# Altium footprint library PowerPAK_SO-8L.PcbLib: 1 footprints
Each footprint in its own frame and in the unit in brackets; x right, y up, seen from the top. Pads: shape width x height; smd on the part's side, far side on the other; paste and mask are expansions set on the pad; w line width, h text height; cw(c..) or ccw(c..) is an arc to the next point about the centre after c.
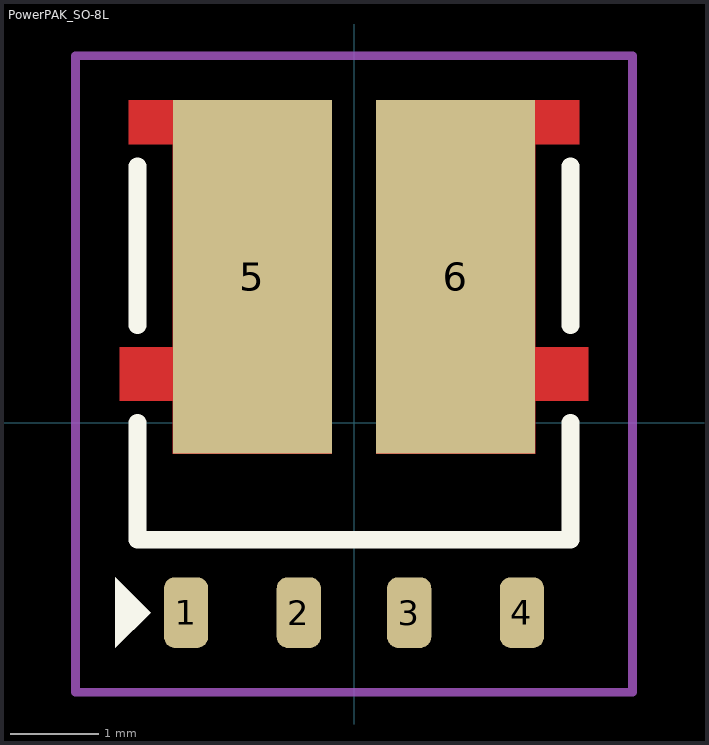
[diagram p0: the footprint, top view; thin cyan lines are the x and y axes]

## PowerPAK_SO-8L [mm]
pads (6):
  rrect50% 0.5x0.8 smd paste+0: 1(-1.9,-2.15) 2(-0.625,-2.15) 3(0.625,-2.15) 4(1.9,-2.15)
  rect 1.8x4 smd: 5(-1.15,1.65) 6(1.15,1.65)
Top Layer:
  region: -2.55,3.15 -2.55,3.65 -0.25,3.65 -0.25,-0.35 -2.05,-0.35 -2.05,0.25 -2.65,0.25 -2.65,0.85 -2.05,0.85 -2.05,3.15
  region: 2.55,3.15 2.55,3.65 0.25,3.65 0.25,-0.35 2.05,-0.35 2.05,0.25 2.65,0.25 2.65,0.85 2.05,0.85 2.05,3.15
Top Overlay:
  region: -2.7,-2.55 -2.7,-1.75 -2.3,-2.15
  lines w0.2: -2.45,0 -2.45,-1.325 2.45,-1.325 2.45,0 ; -2.45,1.1 -2.45,2.9 ; 2.45,1.1 2.45,2.9
Top Courtyard:
  lines w0.1: -3.15,-3.05 3.15,-3.05 3.15,4.15 -3.15,4.15 -3.15,-3.05
3D body "SQJ951EP-T1_GE3.STEP": height 1.24, standoff -0.03, extent -2.565,-2.4 2.565,3.75